# EAGLE library part EDGE-LIBRARY_USB2514B-I_M2_USB2514B-I/M2 (library Local Compute Module)
None Check prices <https://pricing.snapeda.com/parts/USB2514B-I/M2/Microchip/view-part?ref=eda>
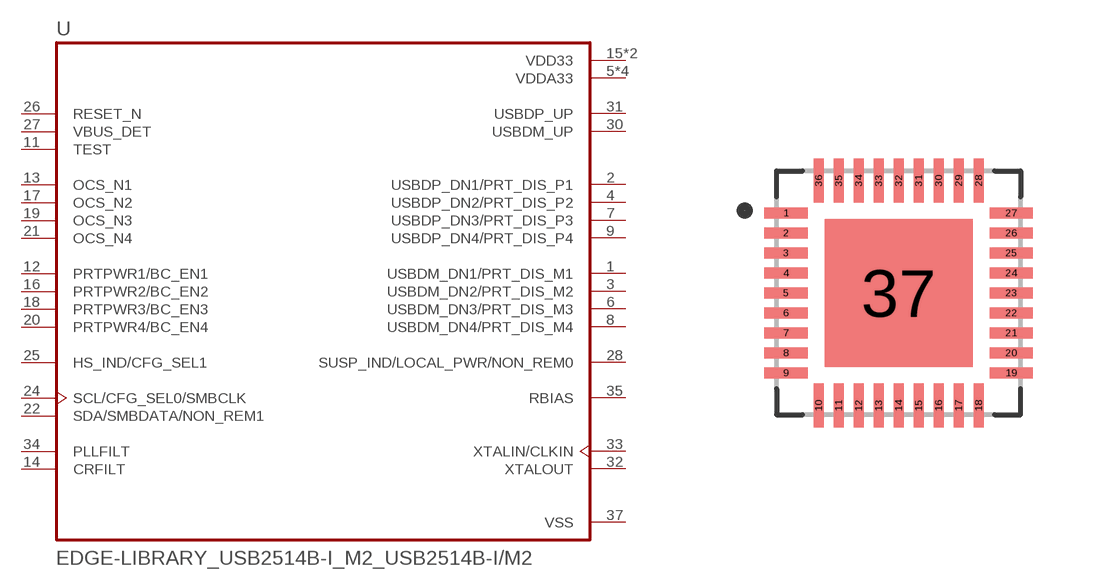
[diagram p5: symbol with the pads of EDGE-LIBRARY_USB2514B-I_M2_QFN50P600X600X100-37N; footprint EDGE-LIBRARY_USB2514B-I_M2_QFN50P600X600X100-37N]

Designator prefix U

## EDGE-LIBRARY_USB2514B-I_M2_USB2514B-I/M2 (DIGIKEY: USB2514B-I/M2-ND; MANUFACTURE: Microchip; MPN: USB2514B-I/M2)  [EDGE-LIBRARY_USB2514B-I_M2_QFN50P600X600X100-37N]
1  USBDM_DN1/PRT_DIS_M1
2  USBDP_DN1/PRT_DIS_P1
3  USBDM_DN2/PRT_DIS_M2
4  USBDP_DN2/PRT_DIS_P2
5  VDDA33
6  USBDM_DN3/PRT_DIS_M3
7  USBDP_DN3/PRT_DIS_P3
8  USBDM_DN4/PRT_DIS_M4
9  USBDP_DN4/PRT_DIS_P4
10  VDDA33
11  TEST
12  PRTPWR1/BC_EN1
13  OCS_N1
14  CRFILT
15  VDD33
16  PRTPWR2/BC_EN2
17  OCS_N2
18  PRTPWR3/BC_EN3
19  OCS_N3
20  PRTPWR4/BC_EN4
21  OCS_N4
22  SDA/SMBDATA/NON_REM1
23  VDD33
24  SCL/CFG_SEL0/SMBCLK
25  HS_IND/CFG_SEL1
26  RESET_N
27  VBUS_DET
28  SUSP_IND/LOCAL_PWR/NON_REM0
29  VDDA33
30  USBDM_UP
31  USBDP_UP
32  XTALOUT
33  XTALIN/CLKIN  in
34  PLLFILT
35  RBIAS
36  VDDA33
37  VSS

## Footprint EDGE-LIBRARY_USB2514B-I_M2_QFN50P600X600X100-37N (pad centres in mm)
smd 1.1 x 0.26: 1 -2.815,2; 2 -2.815,1.5; 3 -2.815,1; 4 -2.815,0.5; 5 -2.815,0; 6 -2.815,-0.5; 7 -2.815,-1; 8 -2.815,-1.5; 9 -2.815,-2; 19 2.815,-2; 20 2.815,-1.5; 21 2.815,-1; 22 2.815,-0.5; 23 2.815,0; 24 2.815,0.5; 25 2.815,1; 26 2.815,1.5; 27 2.815,2
smd 0.26 x 1.1: 10 -2,-2.815; 11 -1.5,-2.815; 12 -1,-2.815; 13 -0.5,-2.815; 14 0,-2.815; 15 0.5,-2.815; 16 1,-2.815; 17 1.5,-2.815; 18 2,-2.815; 28 2,2.815; 29 1.5,2.815; 30 1,2.815; 31 0.5,2.815; 32 0,2.815; 33 -0.5,2.815; 34 -1,2.815; 35 -1.5,2.815; 36 -2,2.815
smd 3.7 x 3.7: 37 0,0